# EAGLE library part INA106 (library opamps)
INA106: Gain=10 instrumentation opamp (Burr-Brown) ±15V, +40-10mA 200µV offset, 5MHz UGF, 30nV/rt(Hz) noise
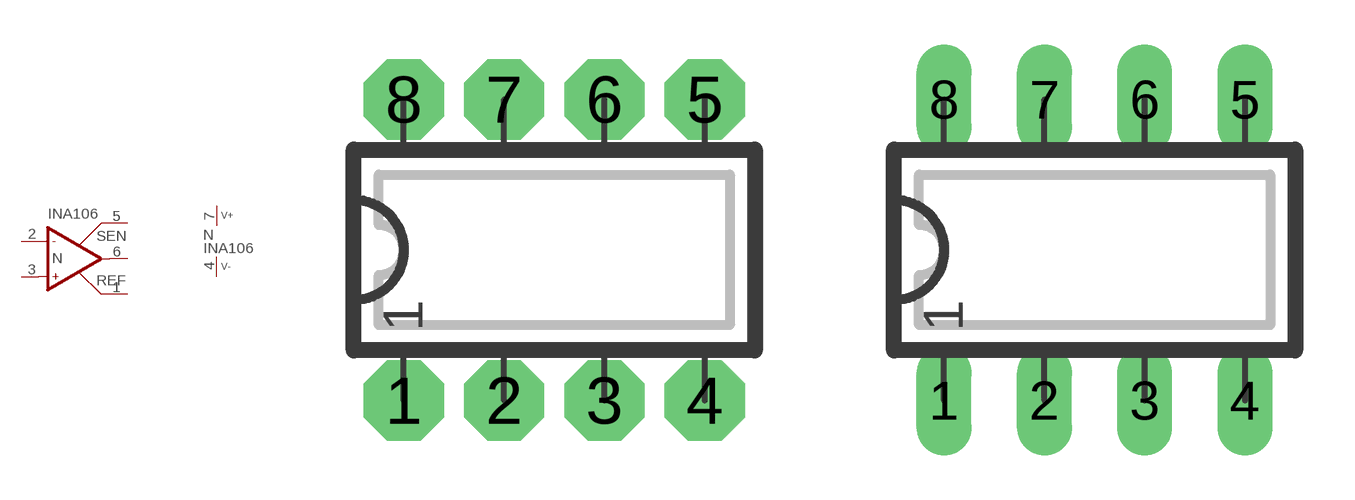
[diagram p179: symbol with the pads of DIP08N; footprints DIP08N, DIP08L]

Designator prefix N; gates A=INA_1 P=V+-

## INA106N  [DIP08N]
1  A:REF  in
2  A:OP-  in
3  A:OP+  in
4  P:V-  pwr
5  A:SEN  in
6  A:OPO  out
7  P:V+  pwr

## INA106L  [DIP08L]
Pads as for DIP08N

## INA106R  [DIP08R]
Pads as for DIP08N

## INA106S  [SO08]
Pads as for DIP08N

## INA106  [DIP08L]
Pads as for DIP08N

## Footprint DIP08N (pad centres in mm)
DIP-8 Standard IC package, 8 pins
drill 0.813 pad 2.032 octagon: 1 -3.81,-3.81; 2 -1.27,-3.81; 3 1.27,-3.81; 4 3.81,-3.81; 5 3.81,3.81; 6 1.27,3.81; 7 -1.27,3.81; 8 -3.81,3.81

## Footprint DIP08L (pad centres in mm)
DIP-8, long pads Standard IC package, 8 pins
drill 0.813 pad 1.397 long: 1 -3.81,-3.81; 2 -1.27,-3.81; 3 1.27,-3.81; 4 3.81,-3.81; 5 3.81,3.81; 6 1.27,3.81; 7 -1.27,3.81; 8 -3.81,3.81

## Footprint DIP08R (pad centres in mm)
DIP-8, reduced pads Standard IC package, 8 pins
drill 0.813 pad 1.397 square: 1 -3.81,-3.81; 2 -1.27,-3.81; 3 1.27,-3.81; 4 3.81,-3.81; 5 3.81,3.81; 6 1.27,3.81; 7 -1.27,3.81; 8 -3.81,3.81

## Footprint SO08 (pad centres in mm)
SO-8, SMD SOIC IC package, 8 pins
smd 0.635 x 1.778: 1 -1.905,-2.857; 2 -0.635,-2.857; 3 0.635,-2.857; 4 1.905,-2.857; 5 1.905,2.857; 6 0.635,2.857; 7 -0.635,2.857; 8 -1.905,2.857